# Altium footprint library PCB-footprints.PcbLib: 2 footprints
Each footprint in its own frame and in the unit in brackets; x right, y up, seen from the top. Pads: shape width x height; smd on the part's side, far side on the other; paste and mask are expansions set on the pad; w line width, h text height; cw(c..) or ccw(c..) is an arc to the next point about the centre after c.
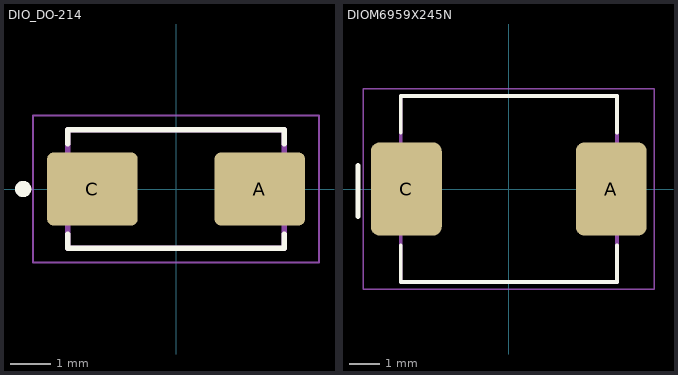
[diagram p0: the footprints below, top view; thin cyan lines are the x and y axes]

## DIO_DO-214 [mm]
pads (2):
  rrect15% 2.21x1.778 smd: A(2.05,0) C(-2.05,0)
Top Overlay:
  circle w0.2: c-3.746,0 r0.1
  lines w0.127: -2.65,-1.1 -2.65,-1.45 2.65,-1.45 2.65,-1.1 ; -2.65,1.1 -2.65,1.45 2.65,1.45 2.65,1.1
Mechanical 13:
  lines w0.127: -2.65,-1.45 -2.65,1.45 2.65,1.45 2.65,-1.45 -2.65,-1.45
Mechanical 15:
  lines w0.05: -3.5,-1.8 3.5,-1.8 3.5,1.8 -3.5,1.8 -3.5,-1.8
3D body "B280-13-F.STEP": height 2.5, standoff 0, extent -2.647,-1.81 2.648,1.81

## DIOM6959X245N [mm]
pads (2):
  rrect25% 2.33x3.07 smd: A(3.365,0) C(-3.365,0)
Top Overlay:
  lines w0.127: -3.55,-1.849 -3.55,-3.05 3.55,-3.05 3.55,-1.849 ; -3.55,1.849 -3.55,3.05 3.55,3.05 3.55,1.849
  lines w0.178: -4.953,-0.889 -4.953,0.762
Mechanical 13:
  lines w0.127: -3.55,-3.05 3.55,-3.05 3.55,3.05 -3.55,3.05 -3.55,-3.05
Mechanical 15:
  lines w0.05: -4.78,-3.3 -4.78,3.3 4.78,3.3 4.78,-3.3 -4.78,-3.3
3D body "b540c-13-f.stp": height 2.25, standoff 0, extent -3.97,-2.921 3.97,2.984